# EAGLE library part 6120XX20621_61200820621 (library Wurth_Connectors_WR-BHD)
WR-BHD 2.54 mm Male SMT Box Header KIND PROPERTIES: Pitch 2.54 mm Gender:Male MATERIAL PROPERTIES: Insulator Material:PA6T Insulator Flammability Rating UL94 V-0 Insulator Color:Black Contact Material :Copper Alloy Contact Plating :Gold Contact Type: Stamped GENERAL INFORMATION: Operating Temperature:-40 °C up to +125 °C Compliance:RoHS Working Voltage: 250 V (AC) Withstanding Voltage:500 V (AC) Contact Resistance: 20 mΩ Insulation Resistance:1000 MΩ CERTIFICATION: UL Approval:E323964 PACKAGING PROPERTIES Packaging :Tube <https://www.we-online.de/katalog/media/o32919v209%20Family_WR-BHD_612xxx20621.jpg> Details see: https://www.we-online.de/katalog/en/em/BHD_2_54_SMT_MALE_BOX_HEADER_6120XX20621 Updated by Yingchun,Shan 2019-10-30 2019 (C) Würth Elektronik
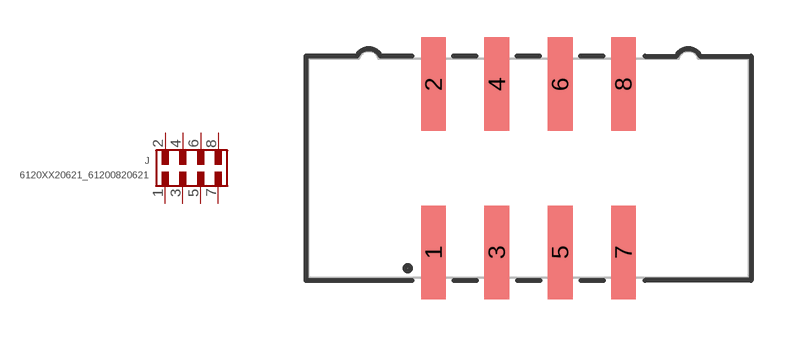
[diagram p108: symbol with the pads of 61200820621; footprint 61200820621]

Designator prefix J

## 6120XX20621_61200820621 (CONTACT-RESISTANCE: 20mOhm; DATASHEET-URL: https://www.we-online.com/redexpert/spec/61200820621?ae; GENDER: Male; IR: 3A; LENGTH: 17.96mm; MOUNT: SMT; PACKAGING: Tube; PART-NUMBER: 61200820621; PINS: 8; PITCH: 2.54mm; TYPE: Straight; VALUE: 61200820621; WORKING-VOLTAGE: 250V(AC))  [61200820621]
1  1  pas
2  2  pas
3  3  pas
4  4  pas
5  5  pas
6  6  pas
7  7  pas
8  8  pas

## Footprint 61200820621 (pad centres in mm)
WR-BHD 2.54 mm Male SMT Box Header,,8 pins
smd 1 x 3.75: 1 -3.81,-3.375; 2 -3.81,3.375; 3 -1.27,-3.375; 4 -1.27,3.375; 5 1.27,-3.375; 6 1.27,3.375; 7 3.81,-3.375; 8 3.81,3.375